# Altium integrated library Linear Technology Power Management LDO Linear Regulators.IntLib: 2339 symbols (part 81 of 131)
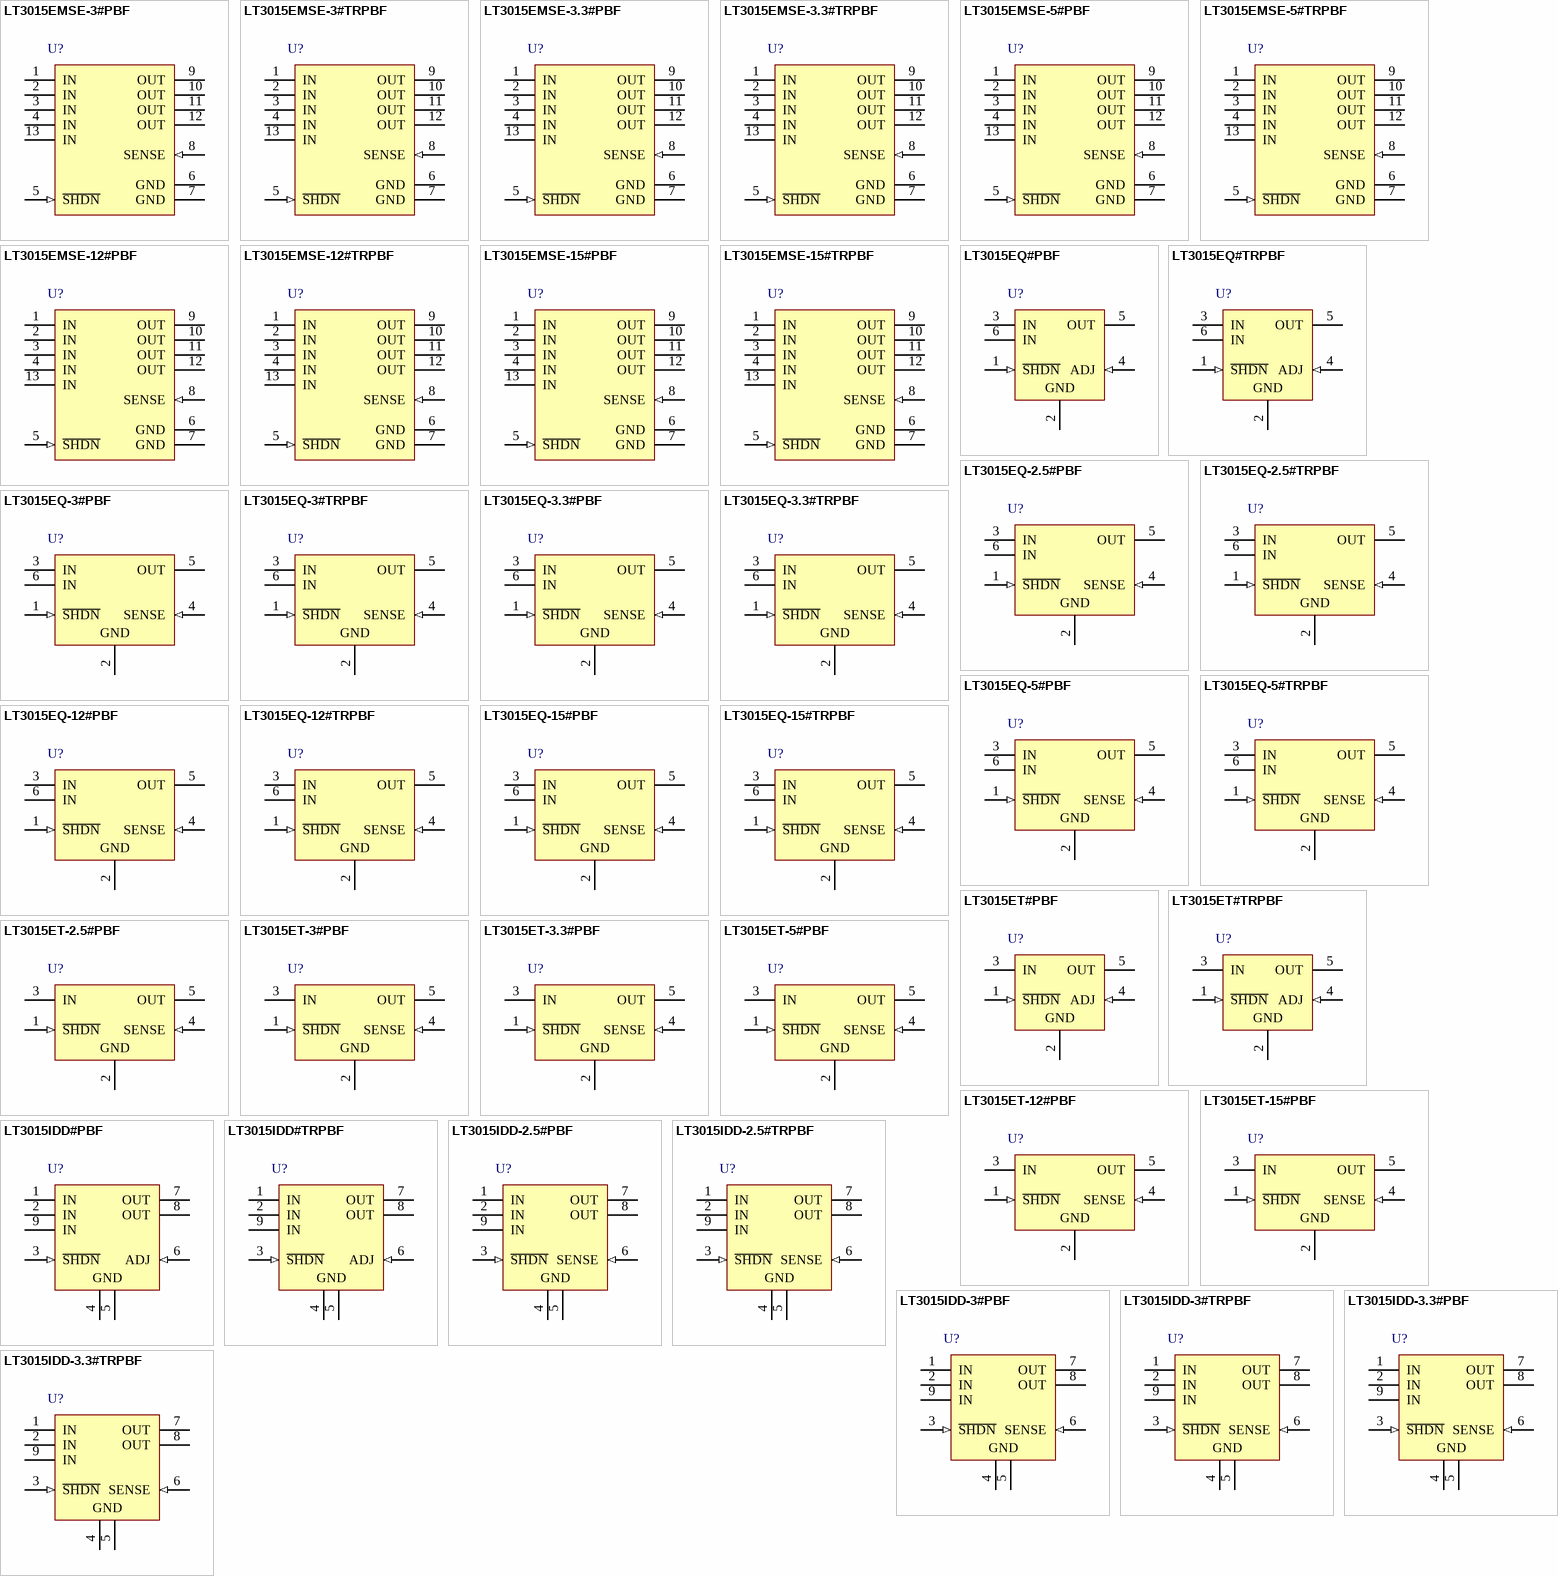
[diagram p149: symbols LT3015EMSE-3#PBF to LT3015IDD-3.3#TRPBF]

## LT3015ET-2.5#PBF
designator U?
1.5 A, Low Noise, Negative Linear Regulator with Precision Current Limit, -1.8 to -30 V Vin, -2.5 V Vout, 5-pin FM (T-5), -40 to 125 degC, Pb-Free; Manufacturer: Linear Technology; PartNumber: LT3015ET-2.5#PBF; Discrete Pass Element: no; Dropout Voltage(V): 0.31; Iout(mA): 1500; Isupply(mA): 1.1; Noise(uV): 60; Number of Outputs: 1; Output Voltage: -2.5 V; PSRR(dB): 62; Shutdown Current(uA): 17; DatasheetVersion: Rev. B; PackageVersion: Aug-10; PackageReference: T-5; PackageDescription: 5-Pin Plastic TO-220 (Standard), Body 10.224 x 8.89 mm, Pitch 1.7 mm; Supplier 1: Digi-Key; Supplier Part Number 1: LT3015ET-2.5#PBF-ND; RoHS: TRUE; Vin Max(V): -1.8; Vin Min(V): -30; Mounting Technology: Through Hole; ComponentLink1Description: Manufacturer URL; ComponentLink1URL: http://www.linear.com/; ComponentLink2Description: Datasheet; ComponentLink2URL: http://cds.linear.com/docs/en/datasheet/3015fb.pdf; ComponentLink3Description: Package Specification; ComponentLink3URL: http://cds.linear.com/docs/en/packaging/TO-220_5_05-08-1421.pdf
footprint LT-T-5-S (FM, 5-Leads, Body 10.2235x4.3815mm, Pitch 1.7mm)
pins: 1 ~{SHDN} (in) "Shutdown. Use the S\H\D\N\ pin to put the LT3015 into a micropower shutdown state. The S\H\D\N\ function is bi-directional, allowing use of either positive or negative logic. The S\H\D\N\ pin threshold voltages are (See Datasheet)", 2 GND (power) "Ground. Tie all GND pin(s) together and tie the bottom of the output voltage setting resistor divider directly to the GND pin(s) for optimum load regulation performance.", 3 IN (power) "Input. These pins supply power to the regulator. The Tab of the DD-Pak, TO-220 and the exposed backside pad of the DFN and MSOP packages is an electrical connection to IN and to the device’s substrate. For prope(See Datasheet)", 4 SENSE (in) "Sense. For the fixed voltage versions of the LT3015 (LT3015-2.5/LT3015-3/LT3015-3.3/ LT3015-5/LT3015-12/LT3015-15), the SENSE pin connects to the non-inverting input of the error amplifier through an internal resistor (See Datasheet)", 5 OUT (power) "Output. These pins supply power to the load. Tie all OUT pins together for best performance. Use a minimum output capacitor of 10uF with an ESR less than 500mohm to prevent oscillations. Large load transient applications (See Datasheet)"

## LT3015ET-3#PBF
designator U?
1.5 A, Low Noise, Negative Linear Regulator with Precision Current Limit, -1.8 to -30 V Vin, -3 V Vout, 5-pin FM (T-5), -40 to 125 degC, Pb-Free; Manufacturer: Linear Technology; PartNumber: LT3015ET-3#PBF; Discrete Pass Element: no; Dropout Voltage(V): 0.31; Iout(mA): 1500; Isupply(mA): 1.1; Noise(uV): 60; Number of Outputs: 1; Output Voltage: -3 V; PSRR(dB): 62; Shutdown Current(uA): 17; DatasheetVersion: Rev. B; PackageVersion: Aug-10; PackageReference: T-5; PackageDescription: 5-Pin Plastic TO-220 (Standard), Body 10.224 x 8.89 mm, Pitch 1.7 mm; Supplier 1: Digi-Key; Supplier Part Number 1: LT3015ET-3#PBF-ND; RoHS: TRUE; Vin Max(V): -1.8; Vin Min(V): -30; Mounting Technology: Through Hole; ComponentLink1Description: Manufacturer URL; ComponentLink1URL: http://www.linear.com/; ComponentLink2Description: Datasheet; ComponentLink2URL: http://cds.linear.com/docs/en/datasheet/3015fb.pdf; ComponentLink3Description: Package Specification; ComponentLink3URL: http://cds.linear.com/docs/en/packaging/TO-220_5_05-08-1421.pdf
footprint LT-T-5-S (FM, 5-Leads, Body 10.2235x4.3815mm, Pitch 1.7mm)
pins: 1 ~{SHDN} (in) "Shutdown. Use the S\H\D\N\ pin to put the LT3015 into a micropower shutdown state. The S\H\D\N\ function is bi-directional, allowing use of either positive or negative logic. The S\H\D\N\ pin threshold voltages are (See Datasheet)", 2 GND (power) "Ground. Tie all GND pin(s) together and tie the bottom of the output voltage setting resistor divider directly to the GND pin(s) for optimum load regulation performance.", 3 IN (power) "Input. These pins supply power to the regulator. The Tab of the DD-Pak, TO-220 and the exposed backside pad of the DFN and MSOP packages is an electrical connection to IN and to the device’s substrate. For prope(See Datasheet)", 4 SENSE (in) "Sense. For the fixed voltage versions of the LT3015 (LT3015-2.5/LT3015-3/LT3015-3.3/ LT3015-5/LT3015-12/LT3015-15), the SENSE pin connects to the non-inverting input of the error amplifier through an internal resistor (See Datasheet)", 5 OUT (power) "Output. These pins supply power to the load. Tie all OUT pins together for best performance. Use a minimum output capacitor of 10uF with an ESR less than 500mohm to prevent oscillations. Large load transient applications (See Datasheet)"

## LT3015ET-3.3#PBF
designator U?
1.5 A, Low Noise, Negative Linear Regulator with Precision Current Limit, -1.8 to -30 V Vin, -3.3 V Vout, 5-pin FM (T-5), -40 to 125 degC, Pb-Free; Manufacturer: Linear Technology; PartNumber: LT3015ET-3.3#PBF; Discrete Pass Element: no; Dropout Voltage(V): 0.31; Iout(mA): 1500; Isupply(mA): 1.1; Noise(uV): 60; Number of Outputs: 1; Output Voltage: -3.3 V; PSRR(dB): 61; Shutdown Current(uA): 17; DatasheetVersion: Rev. B; PackageVersion: Aug-10; PackageReference: T-5; PackageDescription: 5-Pin Plastic TO-220 (Standard), Body 10.224 x 8.89 mm, Pitch 1.7 mm; Supplier 1: Digi-Key; Supplier Part Number 1: LT3015ET-3.3#PBF-ND; RoHS: TRUE; Vin Max(V): -1.8; Vin Min(V): -30; Mounting Technology: Through Hole; ComponentLink1Description: Manufacturer URL; ComponentLink1URL: http://www.linear.com/; ComponentLink2Description: Datasheet; ComponentLink2URL: http://cds.linear.com/docs/en/datasheet/3015fb.pdf; ComponentLink3Description: Package Specification; ComponentLink3URL: http://cds.linear.com/docs/en/packaging/TO-220_5_05-08-1421.pdf
footprint LT-T-5-S (FM, 5-Leads, Body 10.2235x4.3815mm, Pitch 1.7mm)
pins: 1 ~{SHDN} (in) "Shutdown. Use the S\H\D\N\ pin to put the LT3015 into a micropower shutdown state. The S\H\D\N\ function is bi-directional, allowing use of either positive or negative logic. The S\H\D\N\ pin threshold voltages are (See Datasheet)", 2 GND (power) "Ground. Tie all GND pin(s) together and tie the bottom of the output voltage setting resistor divider directly to the GND pin(s) for optimum load regulation performance.", 3 IN (power) "Input. These pins supply power to the regulator. The Tab of the DD-Pak, TO-220 and the exposed backside pad of the DFN and MSOP packages is an electrical connection to IN and to the device’s substrate. For prope(See Datasheet)", 4 SENSE (in) "Sense. For the fixed voltage versions of the LT3015 (LT3015-2.5/LT3015-3/LT3015-3.3/ LT3015-5/LT3015-12/LT3015-15), the SENSE pin connects to the non-inverting input of the error amplifier through an internal resistor (See Datasheet)", 5 OUT (power) "Output. These pins supply power to the load. Tie all OUT pins together for best performance. Use a minimum output capacitor of 10uF with an ESR less than 500mohm to prevent oscillations. Large load transient applications (See Datasheet)"

## LT3015ET-5#PBF
designator U?
1.5 A, Low Noise, Negative Linear Regulator with Precision Current Limit, -1.8 to -30 V Vin, -5 V Vout, 5-pin FM (T-5), -40 to 125 degC, Pb-Free; Manufacturer: Linear Technology; PartNumber: LT3015ET-5#PBF; Discrete Pass Element: no; Dropout Voltage(V): 0.31; Iout(mA): 1500; Isupply(mA): 1.1; Noise(uV): 60; Number of Outputs: 1; Output Voltage: -5 V; PSRR(dB): 58; Shutdown Current(uA): 17; DatasheetVersion: Rev. B; PackageVersion: Aug-10; PackageReference: T-5; PackageDescription: 5-Pin Plastic TO-220 (Standard), Body 10.224 x 8.89 mm, Pitch 1.7 mm; Supplier 1: Digi-Key; Supplier Part Number 1: LT3015ET-5#PBF-ND; Supplier 2: Newark; Supplier Part Number 2: 78T3875; RoHS: TRUE; Vin Max(V): -1.8; Vin Min(V): -30; Mounting Technology: Through Hole; ComponentLink1Description: Manufacturer URL; ComponentLink1URL: http://www.linear.com/; ComponentLink2Description: Datasheet; ComponentLink2URL: http://cds.linear.com/docs/en/datasheet/3015fb.pdf; ComponentLink3Description: Package Specification; ComponentLink3URL: http://cds.linear.com/docs/en/packaging/TO-220_5_05-08-1421.pdf
footprint LT-T-5-S (FM, 5-Leads, Body 10.2235x4.3815mm, Pitch 1.7mm)
pins: 1 ~{SHDN} (in) "Shutdown. Use the S\H\D\N\ pin to put the LT3015 into a micropower shutdown state. The S\H\D\N\ function is bi-directional, allowing use of either positive or negative logic. The S\H\D\N\ pin threshold voltages are (See Datasheet)", 2 GND (power) "Ground. Tie all GND pin(s) together and tie the bottom of the output voltage setting resistor divider directly to the GND pin(s) for optimum load regulation performance.", 3 IN (power) "Input. These pins supply power to the regulator. The Tab of the DD-Pak, TO-220 and the exposed backside pad of the DFN and MSOP packages is an electrical connection to IN and to the device’s substrate. For prope(See Datasheet)", 4 SENSE (in) "Sense. For the fixed voltage versions of the LT3015 (LT3015-2.5/LT3015-3/LT3015-3.3/ LT3015-5/LT3015-12/LT3015-15), the SENSE pin connects to the non-inverting input of the error amplifier through an internal resistor (See Datasheet)", 5 OUT (power) "Output. These pins supply power to the load. Tie all OUT pins together for best performance. Use a minimum output capacitor of 10uF with an ESR less than 500mohm to prevent oscillations. Large load transient applications (See Datasheet)"

## LT3015ET-12#PBF
designator U?
1.5 A, Low Noise, Negative Linear Regulator with Precision Current Limit, -1.8 to -30 V Vin, -12 V Vout, 5-pin FM (T-5), -40 to 125 degC, Pb-Free; Manufacturer: Linear Technology; PartNumber: LT3015ET-12#PBF; Discrete Pass Element: no; Dropout Voltage(V): 0.31; Iout(mA): 1500; Isupply(mA): 1.1; Noise(uV): 60; Number of Outputs: 1; Output Voltage: -12 V; PSRR(dB): 53; Shutdown Current(uA): 17; DatasheetVersion: Rev. B; PackageVersion: Aug-10; PackageReference: T-5; PackageDescription: 5-Pin Plastic TO-220 (Standard), Body 10.224 x 8.89 mm, Pitch 1.7 mm; Supplier 1: Digi-Key; Supplier Part Number 1: LT3015ET-12#PBF-ND; Supplier 2: Newark; Supplier Part Number 2: 78T3870; RoHS: TRUE; Vin Max(V): -1.8; Vin Min(V): -30; Mounting Technology: Through Hole; ComponentLink1Description: Manufacturer URL; ComponentLink1URL: http://www.linear.com/; ComponentLink2Description: Datasheet; ComponentLink2URL: http://cds.linear.com/docs/en/datasheet/3015fb.pdf; ComponentLink3Description: Package Specification; ComponentLink3URL: http://cds.linear.com/docs/en/packaging/TO-220_5_05-08-1421.pdf
footprint LT-T-5-S (FM, 5-Leads, Body 10.2235x4.3815mm, Pitch 1.7mm)
pins: 1 ~{SHDN} (in) "Shutdown. Use the S\H\D\N\ pin to put the LT3015 into a micropower shutdown state. The S\H\D\N\ function is bi-directional, allowing use of either positive or negative logic. The S\H\D\N\ pin threshold voltages are (See Datasheet)", 2 GND (power) "Ground. Tie all GND pin(s) together and tie the bottom of the output voltage setting resistor divider directly to the GND pin(s) for optimum load regulation performance.", 3 IN (power) "Input. These pins supply power to the regulator. The Tab of the DD-Pak, TO-220 and the exposed backside pad of the DFN and MSOP packages is an electrical connection to IN and to the device’s substrate. For prope(See Datasheet)", 4 SENSE (in) "Sense. For the fixed voltage versions of the LT3015 (LT3015-2.5/LT3015-3/LT3015-3.3/ LT3015-5/LT3015-12/LT3015-15), the SENSE pin connects to the non-inverting input of the error amplifier through an internal resistor (See Datasheet)", 5 OUT (power) "Output. These pins supply power to the load. Tie all OUT pins together for best performance. Use a minimum output capacitor of 10uF with an ESR less than 500mohm to prevent oscillations. Large load transient applications (See Datasheet)"

## LT3015ET-15#PBF
designator U?
1.5 A, Low Noise, Negative Linear Regulator with Precision Current Limit, -1.8 to -30 V Vin, -15 V Vout, 5-pin FM (T-5), -40 to 125 degC, Pb-Free; Manufacturer: Linear Technology; PartNumber: LT3015ET-15#PBF; Discrete Pass Element: no; Dropout Voltage(V): 0.31; Iout(mA): 1500; Isupply(mA): 1.1; Noise(uV): 60; Number of Outputs: 1; Output Voltage: -15 V; PSRR(dB): 50; Shutdown Current(uA): 17; DatasheetVersion: Rev. B; PackageVersion: Aug-10; PackageReference: T-5; PackageDescription: 5-Pin Plastic TO-220 (Standard), Body 10.224 x 8.89 mm, Pitch 1.7 mm; Supplier 1: Digi-Key; Supplier Part Number 1: LT3015ET-15#PBF-ND; RoHS: TRUE; Vin Max(V): -1.8; Vin Min(V): -30; Mounting Technology: Through Hole; ComponentLink1Description: Manufacturer URL; ComponentLink1URL: http://www.linear.com/; ComponentLink2Description: Datasheet; ComponentLink2URL: http://cds.linear.com/docs/en/datasheet/3015fb.pdf; ComponentLink3Description: Package Specification; ComponentLink3URL: http://cds.linear.com/docs/en/packaging/TO-220_5_05-08-1421.pdf
footprint LT-T-5-S (FM, 5-Leads, Body 10.2235x4.3815mm, Pitch 1.7mm)
pins: 1 ~{SHDN} (in) "Shutdown. Use the S\H\D\N\ pin to put the LT3015 into a micropower shutdown state. The S\H\D\N\ function is bi-directional, allowing use of either positive or negative logic. The S\H\D\N\ pin threshold voltages are (See Datasheet)", 2 GND (power) "Ground. Tie all GND pin(s) together and tie the bottom of the output voltage setting resistor divider directly to the GND pin(s) for optimum load regulation performance.", 3 IN (power) "Input. These pins supply power to the regulator. The Tab of the DD-Pak, TO-220 and the exposed backside pad of the DFN and MSOP packages is an electrical connection to IN and to the device’s substrate. For prope(See Datasheet)", 4 SENSE (in) "Sense. For the fixed voltage versions of the LT3015 (LT3015-2.5/LT3015-3/LT3015-3.3/ LT3015-5/LT3015-12/LT3015-15), the SENSE pin connects to the non-inverting input of the error amplifier through an internal resistor (See Datasheet)", 5 OUT (power) "Output. These pins supply power to the load. Tie all OUT pins together for best performance. Use a minimum output capacitor of 10uF with an ESR less than 500mohm to prevent oscillations. Large load transient applications (See Datasheet)"

## LT3015IDD#PBF
designator U?
1.5 A, Low Noise, Negative Linear Regulator with Precision Current Limit, -1.8 to -30 V Vin, Adjustable Vout, 8-pin SON (DD-8), -40 to 125 degC, Pb-Free; Manufacturer: Linear Technology; PartNumber: LT3015IDD#PBF; Discrete Pass Element: no; Dropout Voltage(V): 0.31; Iout(mA): 1500; Isupply(mA): 1.1; Noise(uV): 60; Number of Outputs: 1; Output Voltage: Adj; PSRR(dB): 65; Shutdown Current(uA): 17; Vout Max(V): -1.22; Vout Min(V): -29.3; DatasheetVersion: Rev. B; PackageVersion: Jun-10; PackageReference: DD-8; PackageDescription: 8-Pin Plastic DFN, Body 3 x 3 mm, Pitch 0.5 mm; Supplier 1: Digi-Key; Supplier Part Number 1: LT3015IDD#PBF-ND; Supplier 2: Farnell; Supplier Part Number 2: 2066742; Supplier 3: Newark; Supplier Part Number 3: 58T3714; RoHS: TRUE; Vin Max(V): -1.8; Vin Min(V): -30; Mounting Technology: Surface Mount; Code_JEDEC: MO-229; ComponentLink1Description: Manufacturer URL; ComponentLink1URL: http://www.linear.com/; ComponentLink2Description: Datasheet; ComponentLink2URL: http://cds.linear.com/docs/en/datasheet/3015fb.pdf; ComponentLink3Description: Package Specification; ComponentLink3URL: http://cds.linear.com/docs/en/packaging/DFN_8_05-08-1698.pdf
footprint LT-DD-8_V (SON, 8-Leads, Body 3x3mm, Pitch 0.5mm, Thermal Pad 1.65x2.38 mm, IPC Low Density)
pins: 1 IN (power) "Input. These pins supply power to the regulator. The Tab of the DD-Pak, TO-220 and the exposed backside pad of the DFN and MSOP packages is an electrical connection to IN and to the device’s substrate. For prope(See Datasheet)", 2 IN (power) "Input. These pins supply power to the regulator. The Tab of the DD-Pak, TO-220 and the exposed backside pad of the DFN and MSOP packages is an electrical connection to IN and to the device’s substrate. For prope(See Datasheet)", 3 ~{SHDN} (in) "Shutdown. Use the S\H\D\N\ pin to put the LT3015 into a micropower shutdown state. The S\H\D\N\ function is bi-directional, allowing use of either positive or negative logic. The S\H\D\N\ pin threshold voltages are (See Datasheet)", 4 GND (power) "Ground. Tie all GND pin(s) together and tie the bottom of the output voltage setting resistor divider directly to the GND pin(s) for optimum load regulation performance.", 5 GND (power) "Ground. Tie all GND pin(s) together and tie the bottom of the output voltage setting resistor divider directly to the GND pin(s) for optimum load regulation performance.", 6 ADJ (in) "Adjust. For the adjustable voltage version, this pin is the error amplifier’s non-inverting input. It has a typical bias current of 30nA that flows into the pin. The ADJ pin reference voltage is -1.22V referred to GND, an(See Datasheet)", 7 OUT (power) "Output. These pins supply power to the load. Tie all OUT pins together for best performance. Use a minimum output capacitor of 10uF with an ESR less than 500mohm to prevent oscillations. Large load transient applications (See Datasheet)", 8 OUT (power) "Output. These pins supply power to the load. Tie all OUT pins together for best performance. Use a minimum output capacitor of 10uF with an ESR less than 500mohm to prevent oscillations. Large load transient applications (See Datasheet)", 9 IN (power) "Input. These pins supply power to the regulator. The Tab of the DD-Pak, TO-220 and the exposed backside pad of the DFN and MSOP packages is an electrical connection to IN and to the device’s substrate. For prope(See Datasheet)"

## LT3015IDD#TRPBF
designator U?
1.5 A, Low Noise, Negative Linear Regulator with Precision Current Limit, -1.8 to -30 V Vin, Adjustable Vout, 8-pin SON (DD-8), -40 to 125 degC, Pb-Free, Tape and Reel; Manufacturer: Linear Technology; PartNumber: LT3015IDD#TRPBF; Discrete Pass Element: no; Dropout Voltage(V): 0.31; Iout(mA): 1500; Isupply(mA): 1.1; Noise(uV): 60; Number of Outputs: 1; Output Voltage: Adj; PSRR(dB): 65; Shutdown Current(uA): 17; Vout Max(V): -1.22; Vout Min(V): -29.3; DatasheetVersion: Rev. B; PackageVersion: Jun-10; PackageReference: DD-8; PackageDescription: 8-Pin Plastic DFN, Body 3 x 3 mm, Pitch 0.5 mm; Supplier 1: Digi-Key; Supplier Part Number 1: LT3015IDD#TRPBF-ND; Packing: Tape and Reel; RoHS: TRUE; Vin Max(V): -1.8; Vin Min(V): -30; Mounting Technology: Surface Mount; Code_JEDEC: MO-229; ComponentLink1Description: Manufacturer URL; ComponentLink1URL: http://www.linear.com/; ComponentLink2Description: Datasheet; ComponentLink2URL: http://cds.linear.com/docs/en/datasheet/3015fb.pdf; ComponentLink3Description: Package Specification; ComponentLink3URL: http://cds.linear.com/docs/en/packaging/DFN_8_05-08-1698.pdf
footprint LT-DD-8_V (SON, 8-Leads, Body 3x3mm, Pitch 0.5mm, Thermal Pad 1.65x2.38 mm, IPC Low Density)
pins: 1 IN (power) "Input. These pins supply power to the regulator. The Tab of the DD-Pak, TO-220 and the exposed backside pad of the DFN and MSOP packages is an electrical connection to IN and to the device’s substrate. For prope(See Datasheet)", 2 IN (power) "Input. These pins supply power to the regulator. The Tab of the DD-Pak, TO-220 and the exposed backside pad of the DFN and MSOP packages is an electrical connection to IN and to the device’s substrate. For prope(See Datasheet)", 3 ~{SHDN} (in) "Shutdown. Use the S\H\D\N\ pin to put the LT3015 into a micropower shutdown state. The S\H\D\N\ function is bi-directional, allowing use of either positive or negative logic. The S\H\D\N\ pin threshold voltages are (See Datasheet)", 4 GND (power) "Ground. Tie all GND pin(s) together and tie the bottom of the output voltage setting resistor divider directly to the GND pin(s) for optimum load regulation performance.", 5 GND (power) "Ground. Tie all GND pin(s) together and tie the bottom of the output voltage setting resistor divider directly to the GND pin(s) for optimum load regulation performance.", 6 ADJ (in) "Adjust. For the adjustable voltage version, this pin is the error amplifier’s non-inverting input. It has a typical bias current of 30nA that flows into the pin. The ADJ pin reference voltage is -1.22V referred to GND, an(See Datasheet)", 7 OUT (power) "Output. These pins supply power to the load. Tie all OUT pins together for best performance. Use a minimum output capacitor of 10uF with an ESR less than 500mohm to prevent oscillations. Large load transient applications (See Datasheet)", 8 OUT (power) "Output. These pins supply power to the load. Tie all OUT pins together for best performance. Use a minimum output capacitor of 10uF with an ESR less than 500mohm to prevent oscillations. Large load transient applications (See Datasheet)", 9 IN (power) "Input. These pins supply power to the regulator. The Tab of the DD-Pak, TO-220 and the exposed backside pad of the DFN and MSOP packages is an electrical connection to IN and to the device’s substrate. For prope(See Datasheet)"

## LT3015IDD-2.5#PBF
designator U?
1.5 A, Low Noise, Negative Linear Regulator with Precision Current Limit, -1.8 to -30 V Vin, -2.5 V Vout, 8-pin SON (DD-8), -40 to 125 degC, Pb-Free; Manufacturer: Linear Technology; PartNumber: LT3015IDD-2.5#PBF; Discrete Pass Element: no; Dropout Voltage(V): 0.31; Iout(mA): 1500; Isupply(mA): 1.1; Noise(uV): 60; Number of Outputs: 1; Output Voltage: -2.5 V; PSRR(dB): 62; Shutdown Current(uA): 17; DatasheetVersion: Rev. B; PackageVersion: Jun-10; PackageReference: DD-8; PackageDescription: 8-Pin Plastic DFN, Body 3 x 3 mm, Pitch 0.5 mm; Supplier 1: Digi-Key; Supplier Part Number 1: LT3015IDD-2.5#PBF-ND; RoHS: TRUE; Vin Max(V): -1.8; Vin Min(V): -30; Mounting Technology: Surface Mount; Code_JEDEC: MO-229; ComponentLink1Description: Manufacturer URL; ComponentLink1URL: http://www.linear.com/; ComponentLink2Description: Datasheet; ComponentLink2URL: http://cds.linear.com/docs/en/datasheet/3015fb.pdf; ComponentLink3Description: Package Specification; ComponentLink3URL: http://cds.linear.com/docs/en/packaging/DFN_8_05-08-1698.pdf
footprint LT-DD-8_V (SON, 8-Leads, Body 3x3mm, Pitch 0.5mm, Thermal Pad 1.65x2.38 mm, IPC Low Density)
pins: 1 IN (power) "Input. These pins supply power to the regulator. The Tab of the DD-Pak, TO-220 and the exposed backside pad of the DFN and MSOP packages is an electrical connection to IN and to the device’s substrate. For prope(See Datasheet)", 2 IN (power) "Input. These pins supply power to the regulator. The Tab of the DD-Pak, TO-220 and the exposed backside pad of the DFN and MSOP packages is an electrical connection to IN and to the device’s substrate. For prope(See Datasheet)", 3 ~{SHDN} (in) "Shutdown. Use the S\H\D\N\ pin to put the LT3015 into a micropower shutdown state. The S\H\D\N\ function is bi-directional, allowing use of either positive or negative logic. The S\H\D\N\ pin threshold voltages are (See Datasheet)", 4 GND (power) "Ground. Tie all GND pin(s) together and tie the bottom of the output voltage setting resistor divider directly to the GND pin(s) for optimum load regulation performance.", 5 GND (power) "Ground. Tie all GND pin(s) together and tie the bottom of the output voltage setting resistor divider directly to the GND pin(s) for optimum load regulation performance.", 6 SENSE (in) "Sense. For the fixed voltage versions of the LT3015 (LT3015-2.5/LT3015-3/LT3015-3.3/ LT3015-5/LT3015-12/LT3015-15), the SENSE pin connects to the non-inverting input of the error amplifier through an internal resistor (See Datasheet)", 7 OUT (power) "Output. These pins supply power to the load. Tie all OUT pins together for best performance. Use a minimum output capacitor of 10uF with an ESR less than 500mohm to prevent oscillations. Large load transient applications (See Datasheet)", 8 OUT (power) "Output. These pins supply power to the load. Tie all OUT pins together for best performance. Use a minimum output capacitor of 10uF with an ESR less than 500mohm to prevent oscillations. Large load transient applications (See Datasheet)", 9 IN (power) "Input. These pins supply power to the regulator. The Tab of the DD-Pak, TO-220 and the exposed backside pad of the DFN and MSOP packages is an electrical connection to IN and to the device’s substrate. For prope(See Datasheet)"

## LT3015IDD-2.5#TRPBF
designator U?
1.5 A, Low Noise, Negative Linear Regulator with Precision Current Limit, -1.8 to -30 V Vin, -2.5 V Vout, 8-pin SON (DD-8), -40 to 125 degC, Pb-Free, Tape and Reel; Manufacturer: Linear Technology; PartNumber: LT3015IDD-2.5#TRPBF; Discrete Pass Element: no; Dropout Voltage(V): 0.31; Iout(mA): 1500; Isupply(mA): 1.1; Noise(uV): 60; Number of Outputs: 1; Output Voltage: -2.5 V; PSRR(dB): 62; Shutdown Current(uA): 17; DatasheetVersion: Rev. B; PackageVersion: Jun-10; PackageReference: DD-8; PackageDescription: 8-Pin Plastic DFN, Body 3 x 3 mm, Pitch 0.5 mm; Supplier 1: Digi-Key; Supplier Part Number 1: LT3015IDD-2.5#TRPBF-ND; Packing: Tape and Reel; RoHS: TRUE; Vin Max(V): -1.8; Vin Min(V): -30; Mounting Technology: Surface Mount; Code_JEDEC: MO-229; ComponentLink1Description: Manufacturer URL; ComponentLink1URL: http://www.linear.com/; ComponentLink2Description: Datasheet; ComponentLink2URL: http://cds.linear.com/docs/en/datasheet/3015fb.pdf; ComponentLink3Description: Package Specification; ComponentLink3URL: http://cds.linear.com/docs/en/packaging/DFN_8_05-08-1698.pdf
footprint LT-DD-8_V (SON, 8-Leads, Body 3x3mm, Pitch 0.5mm, Thermal Pad 1.65x2.38 mm, IPC Low Density)
pins: 1 IN (power) "Input. These pins supply power to the regulator. The Tab of the DD-Pak, TO-220 and the exposed backside pad of the DFN and MSOP packages is an electrical connection to IN and to the device’s substrate. For prope(See Datasheet)", 2 IN (power) "Input. These pins supply power to the regulator. The Tab of the DD-Pak, TO-220 and the exposed backside pad of the DFN and MSOP packages is an electrical connection to IN and to the device’s substrate. For prope(See Datasheet)", 3 ~{SHDN} (in) "Shutdown. Use the S\H\D\N\ pin to put the LT3015 into a micropower shutdown state. The S\H\D\N\ function is bi-directional, allowing use of either positive or negative logic. The S\H\D\N\ pin threshold voltages are (See Datasheet)", 4 GND (power) "Ground. Tie all GND pin(s) together and tie the bottom of the output voltage setting resistor divider directly to the GND pin(s) for optimum load regulation performance.", 5 GND (power) "Ground. Tie all GND pin(s) together and tie the bottom of the output voltage setting resistor divider directly to the GND pin(s) for optimum load regulation performance.", 6 SENSE (in) "Sense. For the fixed voltage versions of the LT3015 (LT3015-2.5/LT3015-3/LT3015-3.3/ LT3015-5/LT3015-12/LT3015-15), the SENSE pin connects to the non-inverting input of the error amplifier through an internal resistor (See Datasheet)", 7 OUT (power) "Output. These pins supply power to the load. Tie all OUT pins together for best performance. Use a minimum output capacitor of 10uF with an ESR less than 500mohm to prevent oscillations. Large load transient applications (See Datasheet)", 8 OUT (power) "Output. These pins supply power to the load. Tie all OUT pins together for best performance. Use a minimum output capacitor of 10uF with an ESR less than 500mohm to prevent oscillations. Large load transient applications (See Datasheet)", 9 IN (power) "Input. These pins supply power to the regulator. The Tab of the DD-Pak, TO-220 and the exposed backside pad of the DFN and MSOP packages is an electrical connection to IN and to the device’s substrate. For prope(See Datasheet)"

## LT3015IDD-3#PBF
designator U?
1.5 A, Low Noise, Negative Linear Regulator with Precision Current Limit, -1.8 to -30 V Vin, -3 V Vout, 8-pin SON (DD-8), -40 to 125 degC, Pb-Free; Manufacturer: Linear Technology; PartNumber: LT3015IDD-3#PBF; Discrete Pass Element: no; Dropout Voltage(V): 0.31; Iout(mA): 1500; Isupply(mA): 1.1; Noise(uV): 60; Number of Outputs: 1; Output Voltage: -3 V; PSRR(dB): 62; Shutdown Current(uA): 17; DatasheetVersion: Rev. B; PackageVersion: Jun-10; PackageReference: DD-8; PackageDescription: 8-Pin Plastic DFN, Body 3 x 3 mm, Pitch 0.5 mm; Supplier 1: Digi-Key; Supplier Part Number 1: LT3015IDD-3#PBF-ND; RoHS: TRUE; Vin Max(V): -1.8; Vin Min(V): -30; Mounting Technology: Surface Mount; Code_JEDEC: MO-229; ComponentLink1Description: Manufacturer URL; ComponentLink1URL: http://www.linear.com/; ComponentLink2Description: Datasheet; ComponentLink2URL: http://cds.linear.com/docs/en/datasheet/3015fb.pdf; ComponentLink3Description: Package Specification; ComponentLink3URL: http://cds.linear.com/docs/en/packaging/DFN_8_05-08-1698.pdf
footprint LT-DD-8_V (SON, 8-Leads, Body 3x3mm, Pitch 0.5mm, Thermal Pad 1.65x2.38 mm, IPC Low Density)
pins: 1 IN (power) "Input. These pins supply power to the regulator. The Tab of the DD-Pak, TO-220 and the exposed backside pad of the DFN and MSOP packages is an electrical connection to IN and to the device’s substrate. For prope(See Datasheet)", 2 IN (power) "Input. These pins supply power to the regulator. The Tab of the DD-Pak, TO-220 and the exposed backside pad of the DFN and MSOP packages is an electrical connection to IN and to the device’s substrate. For prope(See Datasheet)", 3 ~{SHDN} (in) "Shutdown. Use the S\H\D\N\ pin to put the LT3015 into a micropower shutdown state. The S\H\D\N\ function is bi-directional, allowing use of either positive or negative logic. The S\H\D\N\ pin threshold voltages are (See Datasheet)", 4 GND (power) "Ground. Tie all GND pin(s) together and tie the bottom of the output voltage setting resistor divider directly to the GND pin(s) for optimum load regulation performance.", 5 GND (power) "Ground. Tie all GND pin(s) together and tie the bottom of the output voltage setting resistor divider directly to the GND pin(s) for optimum load regulation performance.", 6 SENSE (in) "Sense. For the fixed voltage versions of the LT3015 (LT3015-2.5/LT3015-3/LT3015-3.3/ LT3015-5/LT3015-12/LT3015-15), the SENSE pin connects to the non-inverting input of the error amplifier through an internal resistor (See Datasheet)", 7 OUT (power) "Output. These pins supply power to the load. Tie all OUT pins together for best performance. Use a minimum output capacitor of 10uF with an ESR less than 500mohm to prevent oscillations. Large load transient applications (See Datasheet)", 8 OUT (power) "Output. These pins supply power to the load. Tie all OUT pins together for best performance. Use a minimum output capacitor of 10uF with an ESR less than 500mohm to prevent oscillations. Large load transient applications (See Datasheet)", 9 IN (power) "Input. These pins supply power to the regulator. The Tab of the DD-Pak, TO-220 and the exposed backside pad of the DFN and MSOP packages is an electrical connection to IN and to the device’s substrate. For prope(See Datasheet)"

## LT3015IDD-3#TRPBF
designator U?
1.5 A, Low Noise, Negative Linear Regulator with Precision Current Limit, -1.8 to -30 V Vin, -3 V Vout, 8-pin SON (DD-8), -40 to 125 degC, Pb-Free, Tape and Reel; Manufacturer: Linear Technology; PartNumber: LT3015IDD-3#TRPBF; Discrete Pass Element: no; Dropout Voltage(V): 0.31; Iout(mA): 1500; Isupply(mA): 1.1; Noise(uV): 60; Number of Outputs: 1; Output Voltage: -3 V; PSRR(dB): 62; Shutdown Current(uA): 17; DatasheetVersion: Rev. B; PackageVersion: Jun-10; PackageReference: DD-8; PackageDescription: 8-Pin Plastic DFN, Body 3 x 3 mm, Pitch 0.5 mm; Supplier 1: Digi-Key; Supplier Part Number 1: LT3015IDD-3#TRPBF-ND; Packing: Tape and Reel; RoHS: TRUE; Vin Max(V): -1.8; Vin Min(V): -30; Mounting Technology: Surface Mount; Code_JEDEC: MO-229; ComponentLink1Description: Manufacturer URL; ComponentLink1URL: http://www.linear.com/; ComponentLink2Description: Datasheet; ComponentLink2URL: http://cds.linear.com/docs/en/datasheet/3015fb.pdf; ComponentLink3Description: Package Specification; ComponentLink3URL: http://cds.linear.com/docs/en/packaging/DFN_8_05-08-1698.pdf
footprint LT-DD-8_V (SON, 8-Leads, Body 3x3mm, Pitch 0.5mm, Thermal Pad 1.65x2.38 mm, IPC Low Density)
pins: 1 IN (power) "Input. These pins supply power to the regulator. The Tab of the DD-Pak, TO-220 and the exposed backside pad of the DFN and MSOP packages is an electrical connection to IN and to the device’s substrate. For prope(See Datasheet)", 2 IN (power) "Input. These pins supply power to the regulator. The Tab of the DD-Pak, TO-220 and the exposed backside pad of the DFN and MSOP packages is an electrical connection to IN and to the device’s substrate. For prope(See Datasheet)", 3 ~{SHDN} (in) "Shutdown. Use the S\H\D\N\ pin to put the LT3015 into a micropower shutdown state. The S\H\D\N\ function is bi-directional, allowing use of either positive or negative logic. The S\H\D\N\ pin threshold voltages are (See Datasheet)", 4 GND (power) "Ground. Tie all GND pin(s) together and tie the bottom of the output voltage setting resistor divider directly to the GND pin(s) for optimum load regulation performance.", 5 GND (power) "Ground. Tie all GND pin(s) together and tie the bottom of the output voltage setting resistor divider directly to the GND pin(s) for optimum load regulation performance.", 6 SENSE (in) "Sense. For the fixed voltage versions of the LT3015 (LT3015-2.5/LT3015-3/LT3015-3.3/ LT3015-5/LT3015-12/LT3015-15), the SENSE pin connects to the non-inverting input of the error amplifier through an internal resistor (See Datasheet)", 7 OUT (power) "Output. These pins supply power to the load. Tie all OUT pins together for best performance. Use a minimum output capacitor of 10uF with an ESR less than 500mohm to prevent oscillations. Large load transient applications (See Datasheet)", 8 OUT (power) "Output. These pins supply power to the load. Tie all OUT pins together for best performance. Use a minimum output capacitor of 10uF with an ESR less than 500mohm to prevent oscillations. Large load transient applications (See Datasheet)", 9 IN (power) "Input. These pins supply power to the regulator. The Tab of the DD-Pak, TO-220 and the exposed backside pad of the DFN and MSOP packages is an electrical connection to IN and to the device’s substrate. For prope(See Datasheet)"

## LT3015IDD-3.3#PBF
designator U?
1.5 A, Low Noise, Negative Linear Regulator with Precision Current Limit, -1.8 to -30 V Vin, -3.3 V Vout, 8-pin SON (DD-8), -40 to 125 degC, Pb-Free; Manufacturer: Linear Technology; PartNumber: LT3015IDD-3.3#PBF; Discrete Pass Element: no; Dropout Voltage(V): 0.31; Iout(mA): 1500; Isupply(mA): 1.1; Noise(uV): 60; Number of Outputs: 1; Output Voltage: -3.3 V; PSRR(dB): 61; Shutdown Current(uA): 17; DatasheetVersion: Rev. B; PackageVersion: Jun-10; PackageReference: DD-8; PackageDescription: 8-Pin Plastic DFN, Body 3 x 3 mm, Pitch 0.5 mm; Supplier 1: Digi-Key; Supplier Part Number 1: LT3015IDD-3.3#PBF-ND; Supplier 2: Newark; Supplier Part Number 2: 78T3882; RoHS: TRUE; Vin Max(V): -1.8; Vin Min(V): -30; Mounting Technology: Surface Mount; Code_JEDEC: MO-229; ComponentLink1Description: Manufacturer URL; ComponentLink1URL: http://www.linear.com/; ComponentLink2Description: Datasheet; ComponentLink2URL: http://cds.linear.com/docs/en/datasheet/3015fb.pdf; ComponentLink3Description: Package Specification; ComponentLink3URL: http://cds.linear.com/docs/en/packaging/DFN_8_05-08-1698.pdf
footprint LT-DD-8_V (SON, 8-Leads, Body 3x3mm, Pitch 0.5mm, Thermal Pad 1.65x2.38 mm, IPC Low Density)
pins: 1 IN (power) "Input. These pins supply power to the regulator. The Tab of the DD-Pak, TO-220 and the exposed backside pad of the DFN and MSOP packages is an electrical connection to IN and to the device’s substrate. For prope(See Datasheet)", 2 IN (power) "Input. These pins supply power to the regulator. The Tab of the DD-Pak, TO-220 and the exposed backside pad of the DFN and MSOP packages is an electrical connection to IN and to the device’s substrate. For prope(See Datasheet)", 3 ~{SHDN} (in) "Shutdown. Use the S\H\D\N\ pin to put the LT3015 into a micropower shutdown state. The S\H\D\N\ function is bi-directional, allowing use of either positive or negative logic. The S\H\D\N\ pin threshold voltages are (See Datasheet)", 4 GND (power) "Ground. Tie all GND pin(s) together and tie the bottom of the output voltage setting resistor divider directly to the GND pin(s) for optimum load regulation performance.", 5 GND (power) "Ground. Tie all GND pin(s) together and tie the bottom of the output voltage setting resistor divider directly to the GND pin(s) for optimum load regulation performance.", 6 SENSE (in) "Sense. For the fixed voltage versions of the LT3015 (LT3015-2.5/LT3015-3/LT3015-3.3/ LT3015-5/LT3015-12/LT3015-15), the SENSE pin connects to the non-inverting input of the error amplifier through an internal resistor (See Datasheet)", 7 OUT (power) "Output. These pins supply power to the load. Tie all OUT pins together for best performance. Use a minimum output capacitor of 10uF with an ESR less than 500mohm to prevent oscillations. Large load transient applications (See Datasheet)", 8 OUT (power) "Output. These pins supply power to the load. Tie all OUT pins together for best performance. Use a minimum output capacitor of 10uF with an ESR less than 500mohm to prevent oscillations. Large load transient applications (See Datasheet)", 9 IN (power) "Input. These pins supply power to the regulator. The Tab of the DD-Pak, TO-220 and the exposed backside pad of the DFN and MSOP packages is an electrical connection to IN and to the device’s substrate. For prope(See Datasheet)"

## LT3015IDD-3.3#TRPBF
designator U?
1.5 A, Low Noise, Negative Linear Regulator with Precision Current Limit, -1.8 to -30 V Vin, -3.3 V Vout, 8-pin SON (DD-8), -40 to 125 degC, Pb-Free, Tape and Reel; Manufacturer: Linear Technology; PartNumber: LT3015IDD-3.3#TRPBF; Discrete Pass Element: no; Dropout Voltage(V): 0.31; Iout(mA): 1500; Isupply(mA): 1.1; Noise(uV): 60; Number of Outputs: 1; Output Voltage: -3.3 V; PSRR(dB): 61; Shutdown Current(uA): 17; DatasheetVersion: Rev. B; PackageVersion: Jun-10; PackageReference: DD-8; PackageDescription: 8-Pin Plastic DFN, Body 3 x 3 mm, Pitch 0.5 mm; Supplier 1: Digi-Key; Supplier Part Number 1: LT3015IDD-3.3#TRPBF-ND; Packing: Tape and Reel; RoHS: TRUE; Vin Max(V): -1.8; Vin Min(V): -30; Mounting Technology: Surface Mount; Code_JEDEC: MO-229; ComponentLink1Description: Manufacturer URL; ComponentLink1URL: http://www.linear.com/; ComponentLink2Description: Datasheet; ComponentLink2URL: http://cds.linear.com/docs/en/datasheet/3015fb.pdf; ComponentLink3Description: Package Specification; ComponentLink3URL: http://cds.linear.com/docs/en/packaging/DFN_8_05-08-1698.pdf
footprint LT-DD-8_V (SON, 8-Leads, Body 3x3mm, Pitch 0.5mm, Thermal Pad 1.65x2.38 mm, IPC Low Density)
pins: 1 IN (power) "Input. These pins supply power to the regulator. The Tab of the DD-Pak, TO-220 and the exposed backside pad of the DFN and MSOP packages is an electrical connection to IN and to the device’s substrate. For prope(See Datasheet)", 2 IN (power) "Input. These pins supply power to the regulator. The Tab of the DD-Pak, TO-220 and the exposed backside pad of the DFN and MSOP packages is an electrical connection to IN and to the device’s substrate. For prope(See Datasheet)", 3 ~{SHDN} (in) "Shutdown. Use the S\H\D\N\ pin to put the LT3015 into a micropower shutdown state. The S\H\D\N\ function is bi-directional, allowing use of either positive or negative logic. The S\H\D\N\ pin threshold voltages are (See Datasheet)", 4 GND (power) "Ground. Tie all GND pin(s) together and tie the bottom of the output voltage setting resistor divider directly to the GND pin(s) for optimum load regulation performance.", 5 GND (power) "Ground. Tie all GND pin(s) together and tie the bottom of the output voltage setting resistor divider directly to the GND pin(s) for optimum load regulation performance.", 6 SENSE (in) "Sense. For the fixed voltage versions of the LT3015 (LT3015-2.5/LT3015-3/LT3015-3.3/ LT3015-5/LT3015-12/LT3015-15), the SENSE pin connects to the non-inverting input of the error amplifier through an internal resistor (See Datasheet)", 7 OUT (power) "Output. These pins supply power to the load. Tie all OUT pins together for best performance. Use a minimum output capacitor of 10uF with an ESR less than 500mohm to prevent oscillations. Large load transient applications (See Datasheet)", 8 OUT (power) "Output. These pins supply power to the load. Tie all OUT pins together for best performance. Use a minimum output capacitor of 10uF with an ESR less than 500mohm to prevent oscillations. Large load transient applications (See Datasheet)", 9 IN (power) "Input. These pins supply power to the regulator. The Tab of the DD-Pak, TO-220 and the exposed backside pad of the DFN and MSOP packages is an electrical connection to IN and to the device’s substrate. For prope(See Datasheet)"

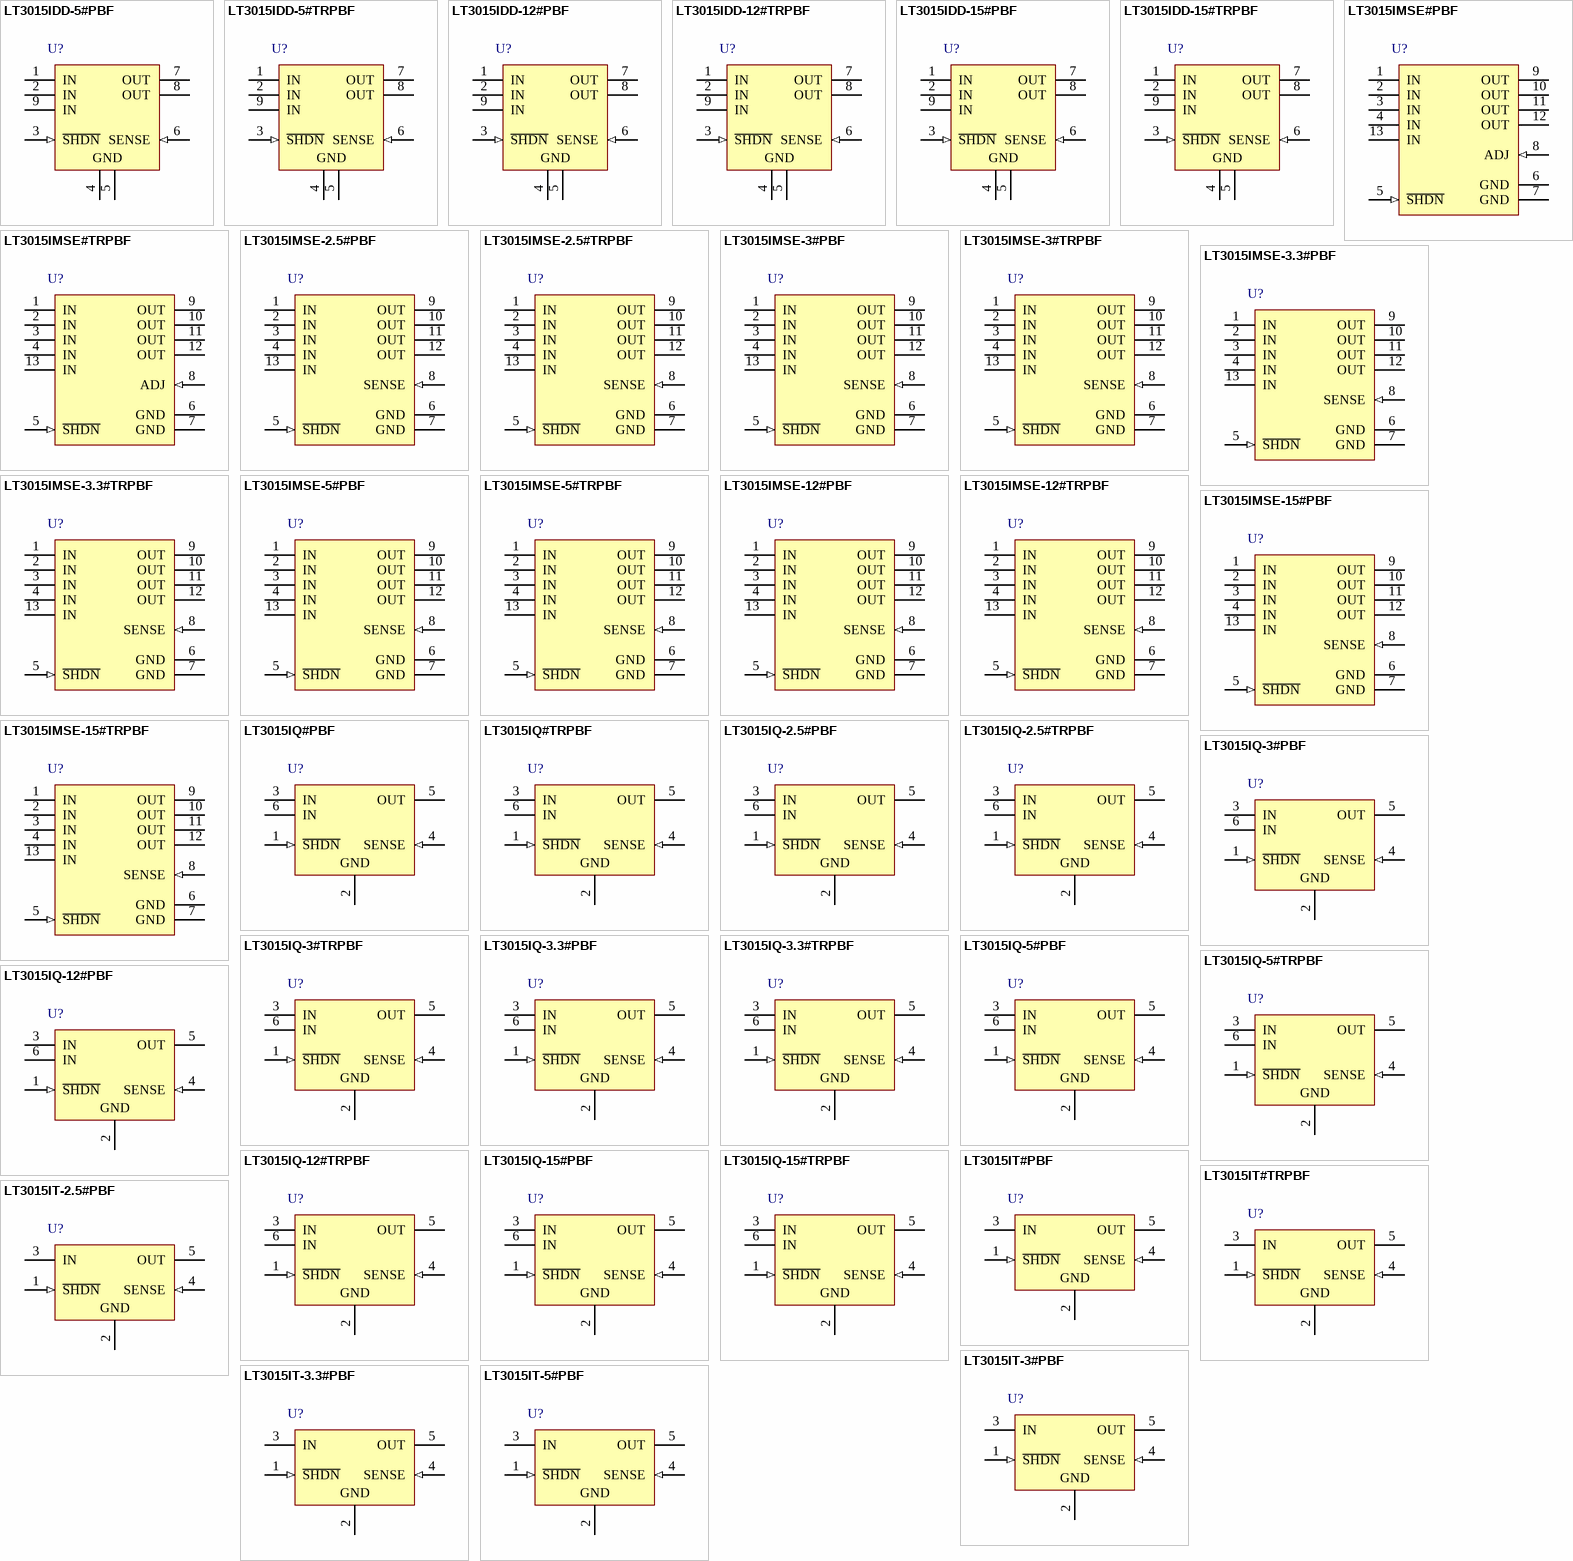
[diagram p49: symbols LT3015IDD-5#PBF to LT3015IT-5#PBF]

## LT3015IDD-5#PBF
designator U?
1.5 A, Low Noise, Negative Linear Regulator with Precision Current Limit, -1.8 to -30 V Vin, -5 V Vout, 8-pin SON (DD-8), -40 to 125 degC, Pb-Free; Manufacturer: Linear Technology; PartNumber: LT3015IDD-5#PBF; Discrete Pass Element: no; Dropout Voltage(V): 0.31; Iout(mA): 1500; Isupply(mA): 1.1; Noise(uV): 60; Number of Outputs: 1; Output Voltage: -5 V; PSRR(dB): 58; Shutdown Current(uA): 17; DatasheetVersion: Rev. B; PackageVersion: Jun-10; PackageReference: DD-8; PackageDescription: 8-Pin Plastic DFN, Body 3 x 3 mm, Pitch 0.5 mm; Supplier 1: Digi-Key; Supplier Part Number 1: LT3015IDD-5#PBF-ND; RoHS: TRUE; Vin Max(V): -1.8; Vin Min(V): -30; Mounting Technology: Surface Mount; Code_JEDEC: MO-229; ComponentLink1Description: Manufacturer URL; ComponentLink1URL: http://www.linear.com/; ComponentLink2Description: Datasheet; ComponentLink2URL: http://cds.linear.com/docs/en/datasheet/3015fb.pdf; ComponentLink3Description: Package Specification; ComponentLink3URL: http://cds.linear.com/docs/en/packaging/DFN_8_05-08-1698.pdf
footprint LT-DD-8_V (SON, 8-Leads, Body 3x3mm, Pitch 0.5mm, Thermal Pad 1.65x2.38 mm, IPC Low Density)
pins: 1 IN (power) "Input. These pins supply power to the regulator. The Tab of the DD-Pak, TO-220 and the exposed backside pad of the DFN and MSOP packages is an electrical connection to IN and to the device’s substrate. For prope(See Datasheet)", 2 IN (power) "Input. These pins supply power to the regulator. The Tab of the DD-Pak, TO-220 and the exposed backside pad of the DFN and MSOP packages is an electrical connection to IN and to the device’s substrate. For prope(See Datasheet)", 3 ~{SHDN} (in) "Shutdown. Use the S\H\D\N\ pin to put the LT3015 into a micropower shutdown state. The S\H\D\N\ function is bi-directional, allowing use of either positive or negative logic. The S\H\D\N\ pin threshold voltages are (See Datasheet)", 4 GND (power) "Ground. Tie all GND pin(s) together and tie the bottom of the output voltage setting resistor divider directly to the GND pin(s) for optimum load regulation performance.", 5 GND (power) "Ground. Tie all GND pin(s) together and tie the bottom of the output voltage setting resistor divider directly to the GND pin(s) for optimum load regulation performance.", 6 SENSE (in) "Sense. For the fixed voltage versions of the LT3015 (LT3015-2.5/LT3015-3/LT3015-3.3/ LT3015-5/LT3015-12/LT3015-15), the SENSE pin connects to the non-inverting input of the error amplifier through an internal resistor (See Datasheet)", 7 OUT (power) "Output. These pins supply power to the load. Tie all OUT pins together for best performance. Use a minimum output capacitor of 10uF with an ESR less than 500mohm to prevent oscillations. Large load transient applications (See Datasheet)", 8 OUT (power) "Output. These pins supply power to the load. Tie all OUT pins together for best performance. Use a minimum output capacitor of 10uF with an ESR less than 500mohm to prevent oscillations. Large load transient applications (See Datasheet)", 9 IN (power) "Input. These pins supply power to the regulator. The Tab of the DD-Pak, TO-220 and the exposed backside pad of the DFN and MSOP packages is an electrical connection to IN and to the device’s substrate. For prope(See Datasheet)"

## LT3015IDD-5#TRPBF
designator U?
1.5 A, Low Noise, Negative Linear Regulator with Precision Current Limit, -1.8 to -30 V Vin, -5 V Vout, 8-pin SON (DD-8), -40 to 125 degC, Pb-Free, Tape and Reel; Manufacturer: Linear Technology; PartNumber: LT3015IDD-5#TRPBF; Discrete Pass Element: no; Dropout Voltage(V): 0.31; Iout(mA): 1500; Isupply(mA): 1.1; Noise(uV): 60; Number of Outputs: 1; Output Voltage: -5 V; PSRR(dB): 58; Shutdown Current(uA): 17; DatasheetVersion: Rev. B; PackageVersion: Jun-10; PackageReference: DD-8; PackageDescription: 8-Pin Plastic DFN, Body 3 x 3 mm, Pitch 0.5 mm; Supplier 1: Digi-Key; Supplier Part Number 1: LT3015IDD-5#TRPBF-ND; Packing: Tape and Reel; RoHS: TRUE; Vin Max(V): -1.8; Vin Min(V): -30; Mounting Technology: Surface Mount; Code_JEDEC: MO-229; ComponentLink1Description: Manufacturer URL; ComponentLink1URL: http://www.linear.com/; ComponentLink2Description: Datasheet; ComponentLink2URL: http://cds.linear.com/docs/en/datasheet/3015fb.pdf; ComponentLink3Description: Package Specification; ComponentLink3URL: http://cds.linear.com/docs/en/packaging/DFN_8_05-08-1698.pdf
footprint LT-DD-8_V (SON, 8-Leads, Body 3x3mm, Pitch 0.5mm, Thermal Pad 1.65x2.38 mm, IPC Low Density)
pins: 1 IN (power) "Input. These pins supply power to the regulator. The Tab of the DD-Pak, TO-220 and the exposed backside pad of the DFN and MSOP packages is an electrical connection to IN and to the device’s substrate. For prope(See Datasheet)", 2 IN (power) "Input. These pins supply power to the regulator. The Tab of the DD-Pak, TO-220 and the exposed backside pad of the DFN and MSOP packages is an electrical connection to IN and to the device’s substrate. For prope(See Datasheet)", 3 ~{SHDN} (in) "Shutdown. Use the S\H\D\N\ pin to put the LT3015 into a micropower shutdown state. The S\H\D\N\ function is bi-directional, allowing use of either positive or negative logic. The S\H\D\N\ pin threshold voltages are (See Datasheet)", 4 GND (power) "Ground. Tie all GND pin(s) together and tie the bottom of the output voltage setting resistor divider directly to the GND pin(s) for optimum load regulation performance.", 5 GND (power) "Ground. Tie all GND pin(s) together and tie the bottom of the output voltage setting resistor divider directly to the GND pin(s) for optimum load regulation performance.", 6 SENSE (in) "Sense. For the fixed voltage versions of the LT3015 (LT3015-2.5/LT3015-3/LT3015-3.3/ LT3015-5/LT3015-12/LT3015-15), the SENSE pin connects to the non-inverting input of the error amplifier through an internal resistor (See Datasheet)", 7 OUT (power) "Output. These pins supply power to the load. Tie all OUT pins together for best performance. Use a minimum output capacitor of 10uF with an ESR less than 500mohm to prevent oscillations. Large load transient applications (See Datasheet)", 8 OUT (power) "Output. These pins supply power to the load. Tie all OUT pins together for best performance. Use a minimum output capacitor of 10uF with an ESR less than 500mohm to prevent oscillations. Large load transient applications (See Datasheet)", 9 IN (power) "Input. These pins supply power to the regulator. The Tab of the DD-Pak, TO-220 and the exposed backside pad of the DFN and MSOP packages is an electrical connection to IN and to the device’s substrate. For prope(See Datasheet)"